# Altium schematic symbol library misc.SchLib: 2 symbols
Pins are listed as number, name and electrical type; pins without a type are passive.

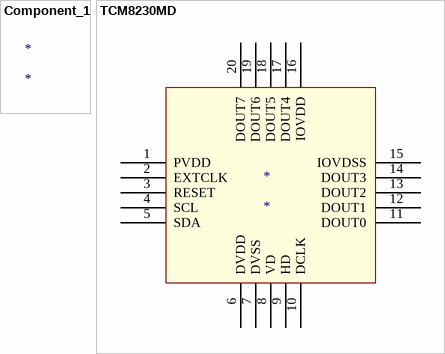
[diagram p0: symbols Component_1 to TCM8230MD]

## Component_1
designator *

## TCM8230MD
designator *
pins: 1 PVDD, 2 EXTCLK, 3 RESET, 4 SCL, 5 SDA, 6 DVDD, 7 DVSS, 8 VD, 9 HD, 10 DCLK, 11 DOUT0, 12 DOUT1, 13 DOUT2, 14 DOUT3, 15 IOVDSS, 16 IOVDD, 17 DOUT4, 18 DOUT5, 19 DOUT6, 20 DOUT7